# Altium integrated library CRCW040247K0FKED.IntLib: 1 symbol
Pins are listed as number, name and electrical type; pins without a type are passive.

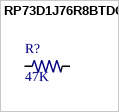
[diagram p0: symbol RP73D1J76R8BTDG]

## RP73D1J76R8BTDG
designator R?, comment 47K
Res Thin Film 0603 76.8 Ohm 0.1% 1/10W Â±15ppm/Â°C Molded SMD Paper T/R; Buying URL:: https://uk.farnell.com/vishay/crcw040247k0fked/res-47k-1-0-063w-0402-thick-film/dp/1469719?st=47K
footprint RESC1005X40N
pins: 1, 2